# Altium footprint library MODULE_ZED-F9P-04B.PcbLib: 1 footprints
Each footprint in its own frame and in the unit in brackets; x right, y up, seen from the top. Pads: shape width x height; smd on the part's side, far side on the other; paste and mask are expansions set on the pad; w line width, h text height; cw(c..) or ccw(c..) is an arc to the next point about the centre after c.
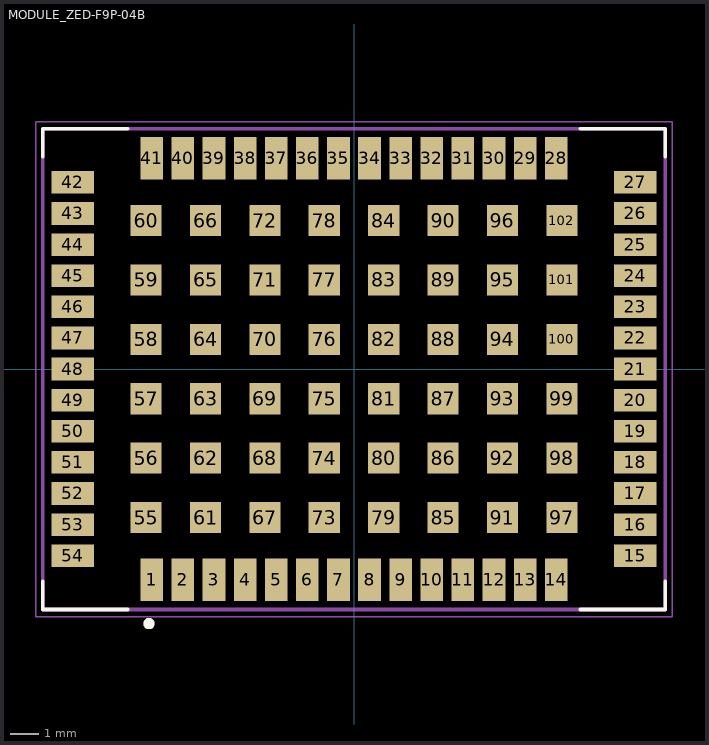
[diagram p0: the footprint, top view; thin cyan lines are the x and y axes]

## MODULE_ZED-F9P-04B [mm]
height 2.6
pads (102):
  rect 0.8x1.5 smd paste-2: 1(-7.15,-7.45) 2(-6.05,-7.45) 3(-4.95,-7.45) 4(-3.85,-7.45) 5(-2.75,-7.45) 6(-1.65,-7.45) 7(-0.55,-7.45) 8(0.55,-7.45) 9(1.65,-7.45) 10(2.75,-7.45) 11(3.85,-7.45) 12(4.95,-7.45) 13(6.05,-7.45) 14(7.15,-7.45) 28(7.15,7.45) 29(6.05,7.45) 30(4.95,7.45) 31(3.85,7.45) 32(2.75,7.45) 33(1.65,7.45) 34(0.55,7.45) 35(-0.55,7.45) 36(-1.65,7.45) 37(-2.75,7.45) 38(-3.85,7.45) 39(-4.95,7.45) 40(-6.05,7.45) 41(-7.15,7.45)
  rect 1.5x0.8 smd paste-2: 15(9.95,-6.6) 16(9.95,-5.5) 17(9.95,-4.4) 18(9.95,-3.3) 19(9.95,-2.2) 20(9.95,-1.1) 21(9.95,0) 22(9.95,1.1) 23(9.95,2.2) 24(9.95,3.3) 25(9.95,4.4) 26(9.95,5.5) 27(9.95,6.6) 42(-9.95,6.6) 43(-9.95,5.5) 44(-9.95,4.4) 45(-9.95,3.3) 46(-9.95,2.2) 47(-9.95,1.1) 48(-9.95,0) 49(-9.95,-1.1) 50(-9.95,-2.2) 51(-9.95,-3.3) 52(-9.95,-4.4) 53(-9.95,-5.5) 54(-9.95,-6.6)
  rect 1.1x1.1 smd paste-0.025: 55(-7.35,-5.25) 56(-7.35,-3.15) 57(-7.35,-1.05) 58(-7.35,1.05) 59(-7.35,3.15) 60(-7.35,5.25) 61(-5.25,-5.25) 62(-5.25,-3.15) 63(-5.25,-1.05) 64(-5.25,1.05) 65(-5.25,3.15) 66(-5.25,5.25) 67(-3.15,-5.25) 68(-3.15,-3.15) 69(-3.15,-1.05) 70(-3.15,1.05) 71(-3.15,3.15) 72(-3.15,5.25) 73(-1.05,-5.25) 74(-1.05,-3.15) 75(-1.05,-1.05) 76(-1.05,1.05) 77(-1.05,3.15) 78(-1.05,5.25) 79(1.05,-5.25) 80(1.05,-3.15) 81(1.05,-1.05) 82(1.05,1.05) 83(1.05,3.15) 84(1.05,5.25) 85(3.15,-5.25) 86(3.15,-3.15) 87(3.15,-1.05) 88(3.15,1.05) 89(3.15,3.15) 90(3.15,5.25) 91(5.25,-5.25) 92(5.25,-3.15) 93(5.25,-1.05) 94(5.25,1.05) 95(5.25,3.15) 96(5.25,5.25) 97(7.35,-5.25) 98(7.35,-3.15) 99(7.35,-1.05) 100(7.35,1.05) 101(7.35,3.15) 102(7.35,5.25)
Top Overlay:
  circle w0.2: c-7.25,-9 r0.1
  lines w0.127: -11,-7.5 -11,-8.5 -8,-8.5 ; -11,7.5 -11,8.5 -8,8.5 ; 8,-8.5 11,-8.5 11,-7.5 ; 8,8.5 11,8.5 11,7.5
Top Paste:
  drawing of 54 lines, arcs and shapes, not listed
Assembly Top:
  circle w0.2: c-7.25,-9 r0.1
  lines w0.127: -11,-8.5 -11,8.5 11,8.5 11,-8.5 -11,-8.5
Courtyard Top:
  lines w0.05: -11.25,-8.75 -11.25,8.75 11.25,8.75 11.25,-8.75 -11.25,-8.75
3D body "step_temp.STEP": height 2.6, standoff 0, extent -11,-8.5 11,8.5